# Altium footprint library PcbLib1.PcbLib: 3 footprints
Each footprint in its own frame and in the unit in brackets; x right, y up, seen from the top. Pads: shape width x height; smd on the part's side, far side on the other; paste and mask are expansions set on the pad; w line width, h text height; cw(c..) or ccw(c..) is an arc to the next point about the centre after c.
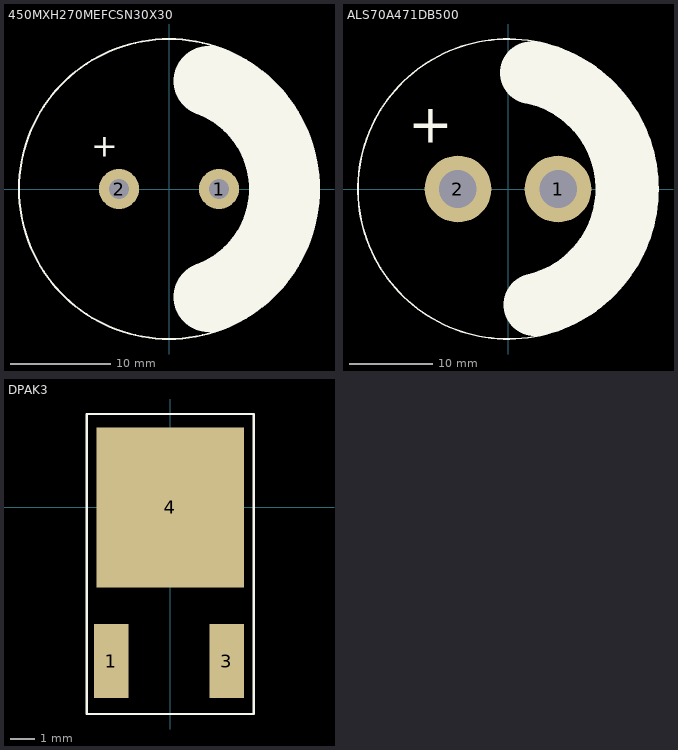
[diagram p0: the footprints below, top view; thin cyan lines are the x and y axes]

## 450MXH270MEFCSN30X30 [mm]
pads (2):
  round 4 hole 2: 1(5,0) 2(-5,0)
Top Layer:
  text "7.5mm" at 25.5,0.8 h1.52
  text "7.5mm" at 2.8,-76.583 h1.52
Top Overlay:
  circle w0.2: c0,0 r15
  lines w7: 3.933,-10.806 ccw(c0,0) 3.933,10.806
  text "+" at -7.8,2.4 h4
3D body "Parça1.STEP": height 30, standoff -5, extent -15,-15 15,15

## ALS70A471DB500 [mm] "DB_35x62mm"
pads (2):
  round 8 hole 4.5: 1(6,0) 2(-6,0)
Top Overlay:
  circle w0.2: c0,0 r18
  lines w7.5: 2.795,13.973 cw(c0,0) 3.204,-13.885
  text "+" at -12,4 h8
3D body "ALS70A471DB500.stp": height 80.98, standoff 0.48, extent -18.589,-18.515 18.411,18.485

## DPAK3 [mm] "MOSFET"
pads (3):
  rect 1.4x3 smd: 1(-2.4,-6.25) 3(2.3,-6.25)
  rect 6x6.5 smd: 4(0,0)
Top Overlay:
  lines w0.1: -3.4,-8.4 3.4,-8.4 3.4,3.8 -3.4,3.8 -3.4,-8.4
3D body "User Library-TO252AA.STEP": height 2.3, standoff -0.01, extent -3.3,-6.85 3.28,2.85